# EAGLE library part MCP2221A-I_ST (library MCP2221A-I_ST)
USB 2.0 to I2C/UART Protocol Converter Source: Datasheet <http://ww1.microchip.com/downloads/en/devicedoc/20005565b.pdf>
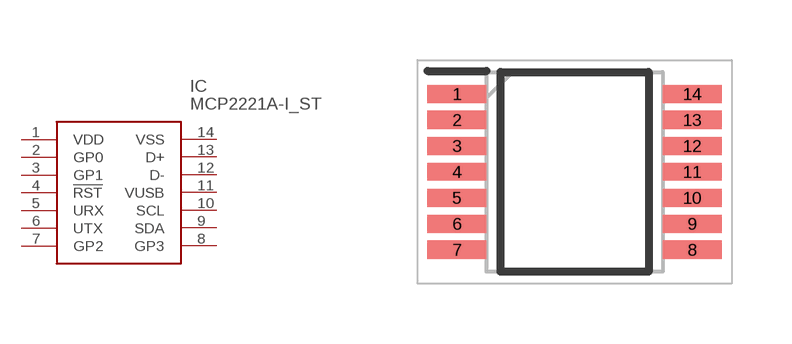
[diagram p0: symbol with the pads of SOP65P640X120-14N; footprint SOP65P640X120-14N]

Designator prefix IC

## MCP2221A-I_ST (Description: USB 2.0 to I2C/UART Protocol Converter; Height: 1.2mm; Manufacturer_Name: Microchip; Manufacturer_Part_Number: MCP2221A-I/ST; Mouser_Part_Number: 579-MCP2221A-I/ST; Mouser_Price-Stock: https://www.mouser.co.uk/ProductDetail/Microchip-Technology/MCP2221A-I-ST?qs=ZEMkBHnybREMkqMgzOrcGQ%3D%3D)  [SOP65P640X120-14N]
1  VDD
2  GP0
3  GP1
4  !RST
5  URX
6  UTX
7  GP2
8  GP3
9  SDA
10  SCL
11  VUSB
12  D-
13  D+
14  VSS

## Footprint SOP65P640X120-14N (pad centres in mm)
(ST)14-Lead(TSSOP)
smd 1.475 x 0.45: 1 -2.938,1.95; 2 -2.938,1.3; 3 -2.938,0.65; 4 -2.938,0; 5 -2.938,-0.65; 6 -2.938,-1.3; 7 -2.938,-1.95; 8 2.938,-1.95; 9 2.938,-1.3; 10 2.938,-0.65; 11 2.938,0; 12 2.938,0.65; 13 2.938,1.3; 14 2.938,1.95